# Altium footprint library Mechanical.PcbLib: 4 footprints
Each footprint in its own frame and in the unit in brackets; x right, y up, seen from the top. Pads: shape width x height; smd on the part's side, far side on the other; paste and mask are expansions set on the pad; w line width, h text height; cw(c..) or ccw(c..) is an arc to the next point about the centre after c.
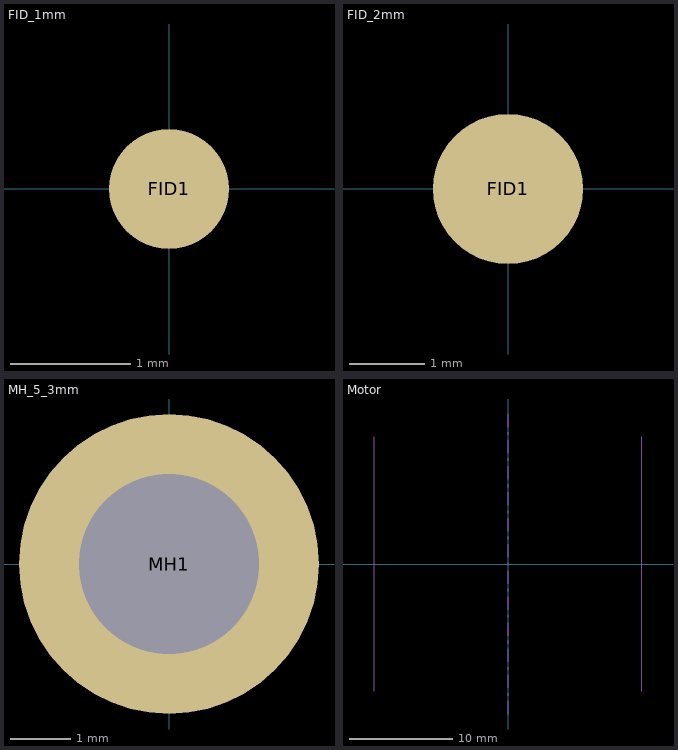
[diagram p0: the footprints below, top view; thin cyan lines are the x and y axes]

## FID_1mm [mm]
pads (1):
  round 1 smd mask+0.75: FID1(0,0)
Multi-Layer:
  pour cut-out: 0,1.25 0.123,1.25 0.365,1.202 0.592,1.108 0.797,0.971 0.971,0.797 1.108,0.592 1.202,0.365 1.25,0.123 1.25,0 1.25,-0.123 1.202,-0.365 1.108,-0.592 0.971,-0.797 0.797,-0.971 0.592,-1.108 0.365,-1.202 0.123,-1.25 0,-1.25 -0.123,-1.25 -0.365,-1.202 -0.592,-1.108 -0.797,-0.971 -0.971,-0.797 -1.108,-0.592 -1.202,-0.365 -1.25,-0.123 -1.25,0 -1.25,0.123 -1.202,0.365 -1.108,0.592 -0.971,0.797 -0.797,0.971 -0.592,1.108 -0.365,1.202 -0.123,1.25

## FID_2mm [mm]
pads (1):
  round 2 smd mask+1: FID1(0,0)
Multi-Layer:
  pour cut-out: -2,0 -2,-0.197 -1.923,-0.583 -1.772,-0.947 -1.554,-1.275 -1.275,-1.554 -0.947,-1.772 -0.583,-1.923 -0.197,-2 0,-2 0.197,-2 0.583,-1.923 0.947,-1.772 1.275,-1.554 1.553,-1.275 1.772,-0.947 1.923,-0.583 2,-0.197 2,0 2,0.197 1.923,0.583 1.772,0.947 1.554,1.275 1.275,1.553 0.947,1.772 0.583,1.923 0.197,2 0,2 -0.197,2 -0.583,1.923 -0.947,1.772 -1.275,1.553 -1.554,1.275 -1.772,0.947 -1.923,0.583 -2,0.197

## MH_5_3mm [mm]
pads (1):
  round 5 hole 3: MH1(0,0)

## Motor [mm] "Nidec Smart 17S"
height 30
Mechanical 1:
  lines w0.1: -13,-12.4 -13,12.4 ; 0,-14.605 0,-13.335 ; 0,-12.827 0,-12.573 ; 0,-12.065 0,-10.795 ; 0,-10.287 0,-10.033 ; 0,-9.525 0,-8.255 ; 0,-7.747 0,-7.493 ; 0,-6.985 0,-5.715 ; 0,-5.207 0,-4.953 ; 0,-4.445 0,-3.175 ; 0,-2.667 0,-2.413 ; 0,-1.905 0,-0.635 ; 0,-0.127 0,0.127 ; 0,0.635 0,1.905 ; 0,2.413 0,2.667 ; 0,3.175 0,4.445 ; 0,4.953 0,5.207 ; 0,5.715 0,6.985 ; 0,7.493 0,7.747 ; 0,8.255 0,9.525 ; 0,10.033 0,10.287 ; 0,10.795 0,12.065 ; 0,12.573 0,12.827 ; 0,13.335 0,14.605 ; 13,-12.4 13,12.4
3D body "motor_htc.STEP": height 22.5, standoff -7.5, extent -15,-12.4 27.833,12.4